# Altium schematic symbol library SN74LVC1G3157.SchLib: 1 symbol
Pins are listed as number, name and electrical type; pins without a type are passive.

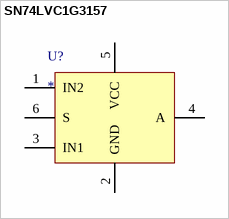
[diagram p0: symbol SN74LVC1G3157]

## SN74LVC1G3157
designator U?
pins: 1 IN2, 2 GND, 3 IN1, 4 A, 5 VCC, 6 S
1 alternate drawing of the same symbol